# Altium schematic symbol library UG-2864HSWEG01.Schlib: 1 symbol
Pins are listed as number, name and electrical type; pins without a type are passive.

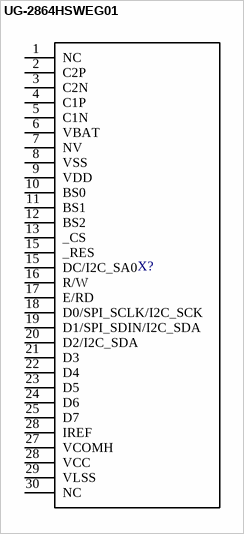
[diagram p0: symbol UG-2864HSWEG01]

## UG-2864HSWEG01
designator X?  (value not drawn)
0.96" OLED, 128x64 px, UG-2864HSWEG01
pins: 1 NC, 2 C2P, 3 C2N, 4 C1P, 5 C1N, 6 VBAT, 7 NV, 8 VSS, 9 VDD, 10 BS0, 11 BS1, 12 BS2, 13 _CS, 15 _RES, 15 DC/I2C_SA0, 16 R/W, 17 E/RD, 18 D0/SPI_SCLK/I2C_SCK, 19 D1/SPI_SDIN/I2C_SDA, 20 D2/I2C_SDA, 21 D3, 22 D4, 23 D5, 24 D6, 25 D7, 27 VCOMH, 28 IREF, 28 VCC, 29 VLSS, 30 NC